# Altium schematic symbol library SN74AUP1G00DBVR.Schlib: 1 symbol
Pins are listed as number, name and electrical type; pins without a type are passive.

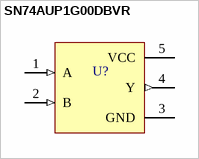
[diagram p0: symbol SN74AUP1G00DBVR]

## SN74AUP1G00DBVR
designator U?
Low-Power Single Two-Input Positive-NAND Gate 5-SOT-23 -40 to 85
pins: 1 A (in), 2 B (in), 3 GND (power), 4 Y (out), 5 VCC (power)